# Altium schematic symbol library Schlib1.SchLib: 6 symbols
Pins are listed as number, name and electrical type; pins without a type are passive.

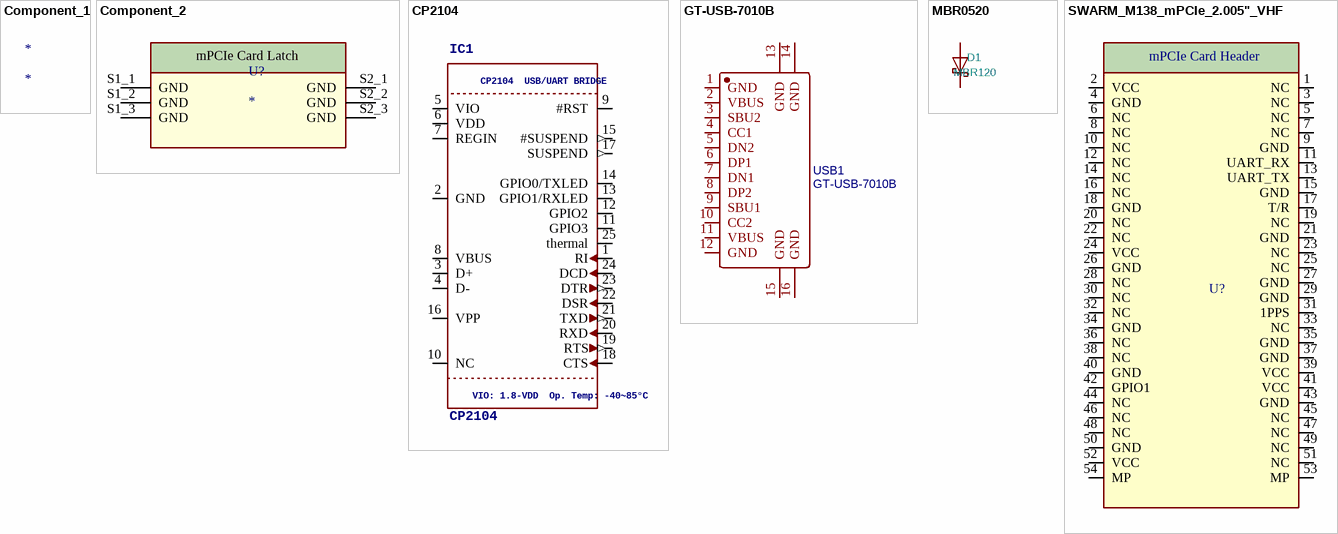
[diagram p0: symbols Component_1 to SWARM_M138_mPCIe_2.005"_VHF]

## Component_1
designator *

## Component_2
designator U?
footprint m.2
pins: S1_1 GND (power), S1_2 GND (power), S1_3 GND (power), S2_1 GND (power), S2_2 GND (power), S2_3 GND (power)
text: mPCIe Card Latch

## CP2104
designator IC1  CP2104
USB/UARTBRIDGE: CP2104 / USB/UART BRIDGE  VIO:1.8-VDD
Op.Temp:-40~85°C: VIO: 1.8-VDD / Op. Temp: -40~85°C
CP2104 - USB to UART Bridge    VDD Output: 3.45V; COMPANY: ADAFRUIT INDUSTRIES; DRAWN: KTOWN; REV: B
footprint cp2104
pins: 1 RI, 2 GND (power), 3 D+, 4 D-, 5 VIO (power), 6 VDD (power), 7 REGIN (power), 8 VBUS (power), 9 #RST, 10 NC, 11 GPIO3, 12 GPIO2, 13 GPIO1/RXLED, 14 GPIO0/TXLED, 15 #SUSPEND (out), 16 VPP, 17 SUSPEND (out), 18 CTS, 19 RTS (out), 20 RXD, 21 TXD (out), 22 DSR, 23 DTR (out), 24 DCD, 25 thermal

## GT-USB-7010B
designator USB1
BOM_Manufacturer: G-Switch(品赞); Contributor: LCSC; BOM_Supplier: LCSC; BOM_Supplier Part: C2837092; BOM_Manufacturer Part: GT-USB-7010B; BOM_JLCPCB Part Class: Extended Part; spicePre: U; spiceSymbolName: GT-USB-7010B
footprint USB-C-SMD_GT-USB-7010B
pins: 1 GND, 2 VBUS, 3 SBU2, 4 CC1, 5 DN2, 6 DP1, 7 DN1, 8 DP2, 9 SBU1, 10 CC2, 11 VBUS, 12 GND, 13 GND, 14 GND, 15 GND, 16 GND

## MBR0520
designator D1, comment MBR120
Manufacturer_Part_Number: LMBR120FT1G; Generic Part: no; Manufacturer: ON; Footprint: Diode_SMD:D_SOD-123; LCSC Part Number: C81143; Value: MBR120
footprint D_SOD-123
pins: 1 K, 2 A

## SWARM_M138_mPCIe_2.005"_VHF
designator U?
SWARM M138 MODEM mPCIe 2.005" (50.925mm) x 1.18" (30mm)  Two part connector; MANUF1: JAE; SPECIAL_INSTRUCTIONS: A: MM60-52B1-B1-R850 B: MM60-EZH039-B5-R850; TEMP: -40°C ~ 85°C; Size: mPCIe; Supplier: Digikey; Supplier P/N: A: 670-2274-2-ND B: 670-2276-2-ND; Type: CONN; MANUF1 P/N: A: MM60-52B1-B1-R850 B: MM60-EZH039-B5-R850
signal-integrity model Model Name (Model Description)
footprint RF_VHF_JAE_MM60-52B1-B1-R850_MM60-EZH039-B5-R850_w_2005_mPCIe_card
pins: 1 NC (oc), 2 VCC (power), 3 NC, 4 GND (power), 5 NC, 6 NC, 7 NC (oc), 8 NC, 9 GND (power), 10 NC, 11 UART_RX, 12 NC, 13 UART_TX, 14 NC, 15 GND (power), 16 NC, 17 T/R, 18 GND (power), 19 NC, 20 NC, 21 GND (power), 22 NC, 23 NC, 24 VCC, 25 NC, 26 GND (power), 27 GND (power), 28 NC, 29 GND (power), 30 NC, 31 1PPS, 32 NC, 33 NC, 34 GND (power), 35 GND (power), 36 NC, 37 GND (power), 38 NC, 39 VCC (power), 40 GND (power), 41 VCC (power), 42 GPIO1, 43 GND (power), 44 NC, 45 NC, 46 NC, 47 NC, 48 NC, 49 NC, 50 GND (power), 51 NC, 52 VCC (power), 53 MP (power), 54 MP (power)
1 alternate drawing of the same symbol
text: mPCIe Card Header